# Altium footprint library 元器件.PCBLIB: 210 footprints (part 1 of 14)
Each footprint in its own frame and in the unit in brackets; x right, y up, seen from the top. Pads: shape width x height; smd on the part's side, far side on the other; paste and mask are expansions set on the pad; w line width, h text height; cw(c..) or ccw(c..) is an arc to the next point about the centre after c.
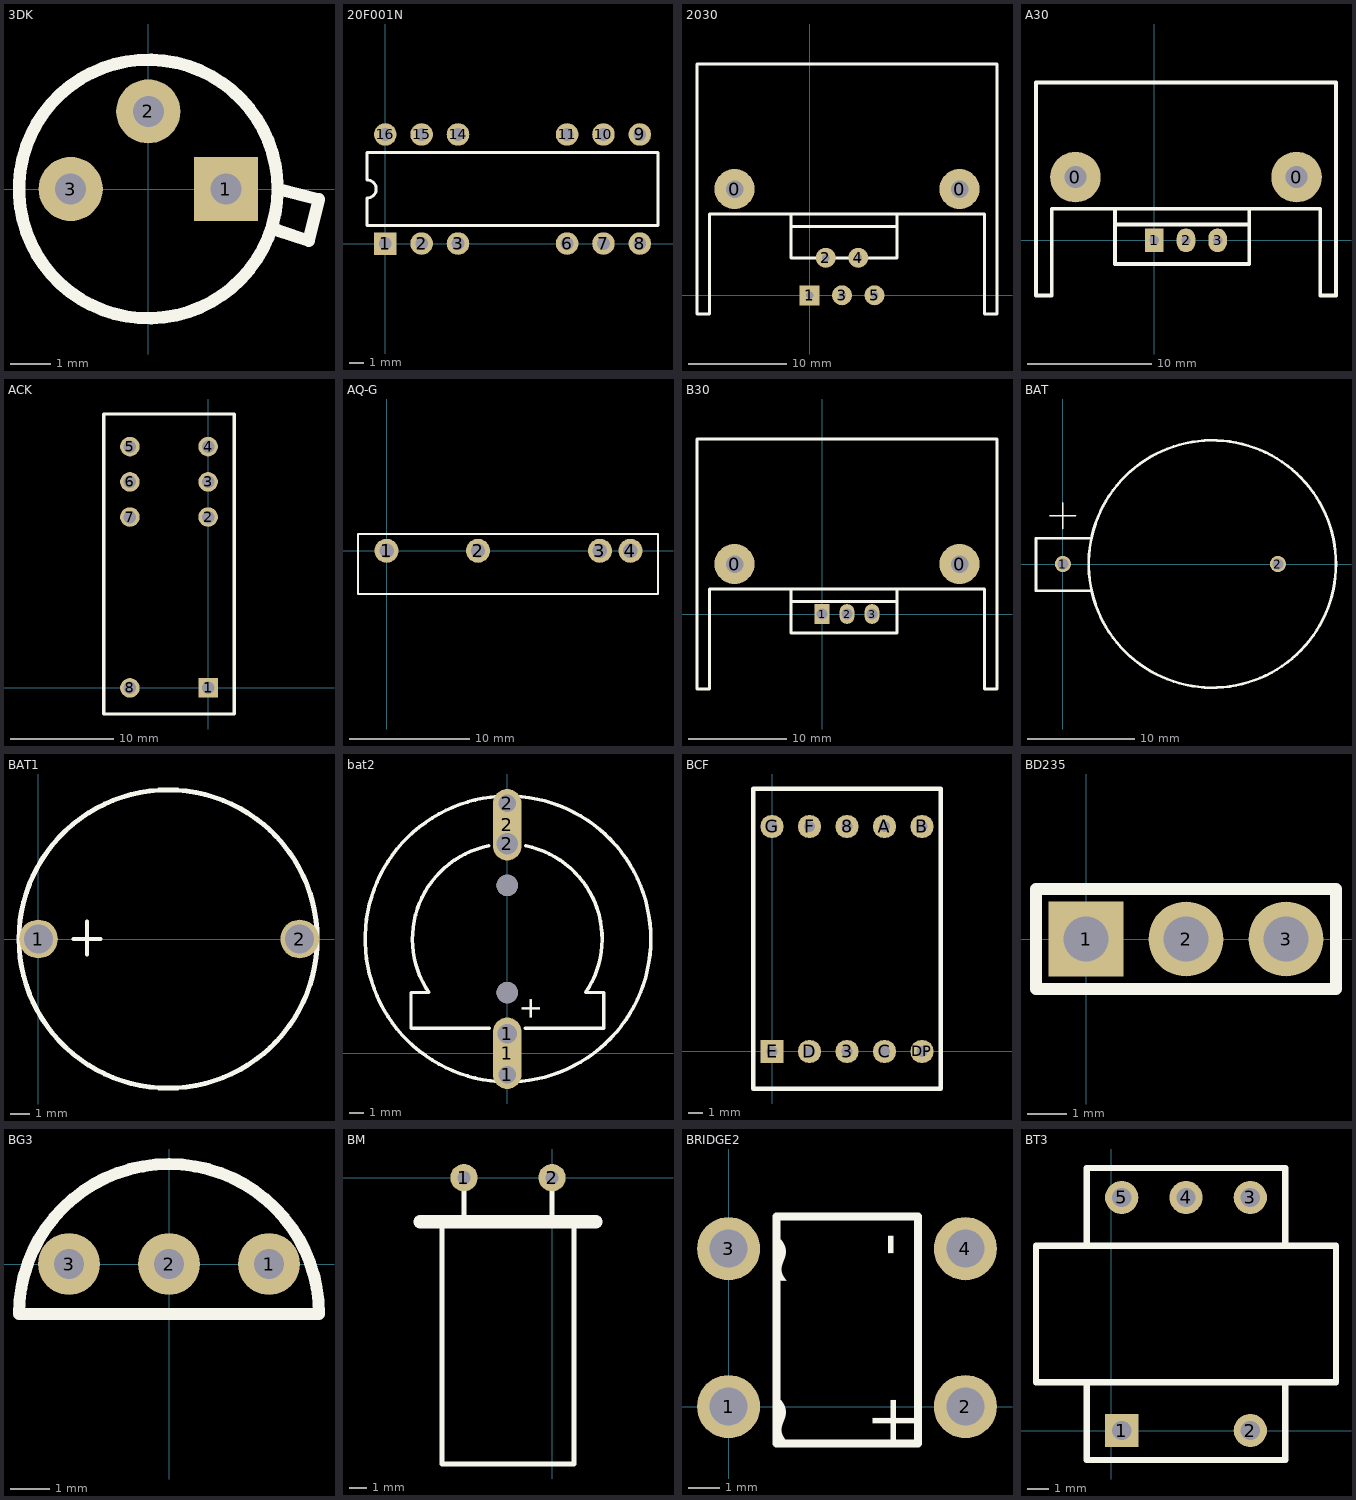
[diagram p0: the footprints below, top view; thin cyan lines are the x and y axes]

## 3DK [mil]
pads (3):
  rect 62x62 hole 30: 1(75,0)
  round 62 hole 30: 2(0,75) 3(-75,0)
TopOverlay:
  circle w12: c0,0 r125
  lines w12: 125,-40 155,-50 165,-10 125,0

## 20F001N [mil]
pads (16):
  rect 62x62 hole 35: 1(0,0)
  round 62 hole 35: 2(100,0) 3(200,0) 6(500,0) 7(600,0) 8(700,0) 9(700,300) 10(600,300) 11(500,300) 14(200,300) 15(100,300) 16(0,300)
  round 0 all layers, no hole: 4(300,0) 5(400,0) 12(400,300) 13(300,300)
TopOverlay:
  lines w7.87: -50,50 750,50 750,250 -50,250 -50,175 cw(c-50,150) -50,125 -50,50

## 2030 [mil]
pads (7):
  round 160 hole 70: 0(-300,425) 0(600,425)
  rect 80x80 hole 30: 1(0,0)
  round 80 hole 30: 2(65,150) 3(130,0) 4(195,150) 5(260,0)
TopOverlay:
  lines w12: -300,325 550,325 ; -75,150 350,150 ; -75,150 -75,325 ; -75,150 -75,325 ; -75,150 350,150 ; -75,325 350,325 ; -75,325 350,325 ; 350,150 350,325 ; 350,150 350,325 ; -450,-75 -400,-75 -400,325 700,325 700,-75 750,-75 750,925 -450,925 -450,-75 ; -75,275 350,275 -75,275

## A30 [mil]
pads (5):
  round 160 hole 70: 0(-250,200) 0(450,200)
  rect 59.05x75 hole 30: 1(0,0)
  oval 59.05x75 hole 30: 2(100,0) 3(200,0)
TopOverlay:
  lines w12: -125,50 300,50 ; 325,500 375,500 ; -375,-175 -375,500 575,500 575,-175 525,-175 525,100 -325,100 -325,-175 -375,-175 ; -125,-75 300,-75 300,100 -125,100 -125,-75

## ACK [mil]
pads (8):
  rect 75x75 hole 48: 1(0,0)
  round 75 hole 48: 2(0,655) 3(0,790) 4(0,925) 5(-300,925) 6(-300,790) 7(-300,655) 8(-300,0)
TopOverlay:
  lines w12: -400,-100 100,-100 100,1050 -400,1050 -400,-100

## AQ-G [mm]
pads (4):
  round 2 hole 1.2: 1(0,0) 2(7.62,0) 3(17.78,0) 4(20.32,0)
TopOverlay:
  lines w0.203: -2.38,-3.6 -2.38,1.4 22.62,1.4 22.62,-3.6 -2.38,-3.6

## B30 [mil]
pads (5):
  round 160 hole 70: 0(-350,200) 0(550,200)
  rect 59.05x78.74 hole 45: 1(0,0)
  oval 59.05x78.74 hole 45: 2(100,0) 3(200,0)
TopOverlay:
  lines w12: -125,50 300,50 ; -500,-300 -500,700 700,700 700,-300 650,-300 650,100 -450,100 -450,-300 -500,-300 ; -125,-75 300,-75 300,100 -125,100 -125,-75

## BAT [mm]
pads (2):
  round 1.5 hole 1: 1(0,0) 2(20,0)
TopOverlay:
  circle w0.254: c13.9,0 r11.5
  lines w0.152: -1.2,4.5 1.2,4.5 ; 0,3.3 0,5.7
  lines w0.254: -2.5,2.4 -2.5,-2.5 2.6,-2.5 ; -2.5,2.4 2.6,2.4

## BAT1 [mm]
pads (2):
  round 2 hole 1.5: 1(0,0) 2(13.5,0)
TopOverlay:
  circle w0.254: c6.7,0 r7.706
  lines w0.203: 1.8,0 3.2,0 ; 2.5,-0.8 2.5,0.9

## bat2 [mil]
pads (8):
  round 78.74 hole 50: 1(0,-60) 2(0,700)
  oval 80x200 smd: 1(0,0) 2(0,640)
  round 78.74 hole 55.12: 1(0,55.12)
  round 78.74 hole 59.06: 2(0,586.61)
  round 60 hole 60: ""(0,170) ""(0,470)
TopOverlay:
  circle w10: c2,320 r400
  lines w9: -220,170 -270,170 -270,70 -50,70 ; 50,70 270,70 270,170 220,170
  lines w10: -219.53,170.32 cw(c0,320) -52.11,580.55 ; 52.11,580.55 cw(c0,320) 219.53,170.32
  text "+" at 40,160 h60

## BCF [mil]
pads (10):
  round 62 hole 30: 3(200,0) 8(200,600) A(300,600) B(400,600) C(300,0) D(100,0) DP(400,0) F(100,600) G(0,600)
  rect 62x62 hole 30: E(0,0)
TopOverlay:
  lines w12: -50,-100 450,-100 450,700 -50,700 -50,-100

## BD235 [mil]
pads (3):
  rect 75x75 hole 45: 1(0,0)
  round 75 hole 45: 2(100,0) 3(200,0)
TopOverlay:
  lines w12: -50,-50 -50,50 250,50 250,-50 -50,-50

## BG3 [mil]
pads (3):
  round 62 hole 30: 1(100,0) 2(0,0) 3(-100,0)
TopOverlay:
  lines w12: -150,-50 cw(c0,-50) 150,-50 -150,-50

## BM [mil]
pads (2):
  round 62 hole 30: 1(-200,0) 2(0,0)
TopOverlay:
  lines w12: -250,-100 -250,-650 50,-650 50,-100 ; -200,-100 -200,0 ; 0,-100 0,0
  lines w30: -300,-100 100,-100

## BRIDGE2 [mm]
pads (4):
  round 2 hole 1.2: 1(0,0) 2(7.5,0) 3(0,5) 4(7.5,5)
TopOverlay:
  lines w0.254: 1.524,-1.168 5.992,-1.168 5.992,6.016 1.524,6.016 1.524,-1.168
  text "-" at 4.572,5.508 h1.52
  text "+" at 4.572,0.428 h1.52
  text "~" at 1.016,5.508 h1.52
  text "~" at 1.016,0.428 h1.52

## BT3 [mil]
pads (5):
  rect 62x62 hole 36: 1(19.68,0)
  round 62 hole 36: 2(259.69,0) 3(259.69,435) 4(139.69,435) 5(19.68,435)
TopOverlay:
  lines w12: -45.31,90 -45.31,-55 324.69,-55 324.69,90 ; -45.31,345 -45.31,490 324.69,490 324.69,345 ; -140.31,90 -140.31,345 419.69,345 419.69,90 -140.31,90